# EAGLE library part NCJ6F (library con-neutrik_xlr_2)
NCJ6F Combination - 3 pin Female XLR - 3 pin 1/4" socket With or without retention latch I variant Combi I series A varaiant Combi A series reduced width 2 x T pins Source: www.neutrik.com/
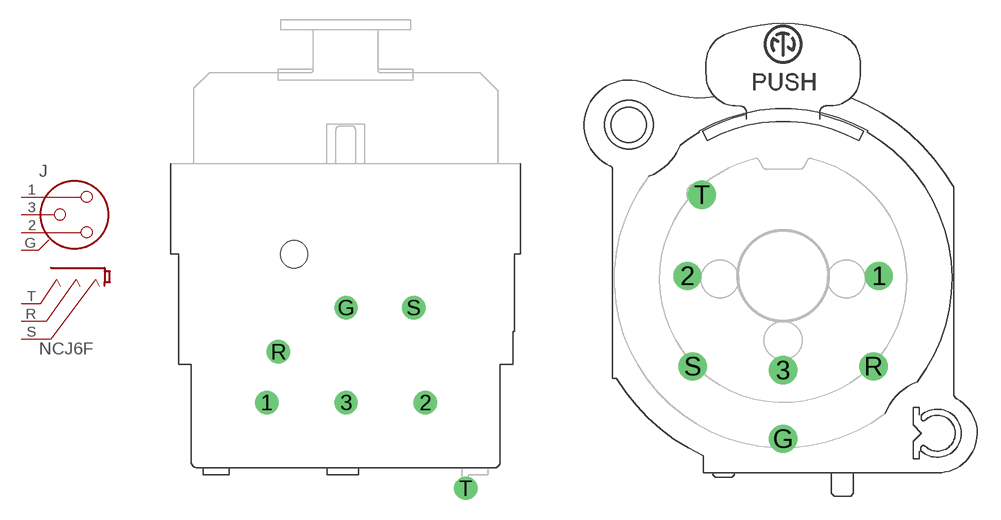
[diagram p2: symbol with the pads of NCJ6FI-H; footprints NCJ6FI-H, NCJ6FI-V]

Designator prefix J

## NCJ6FI-H  [NCJ6FI-H]
1  1  pas
2  2  pas
3  3  pas
G  G  pas
R  R  pas
S  S  pas
T  T  pas

## NCJ6FI-V  [NCJ6FI-V]
Pads as for NCJ6FI-H

## NCJ6FA-H  [NCJ6FA-H]
1  1  pas
2  2  pas
3  3  pas
G  G  pas
R  R  pas
S  S  pas
T  T  pas
T1  T  pas

## NCJ6FA-V  [NCJ6FA-V]
Pads as for NCJ6FA-H

## NCJ6FA-H-0  [NCJ6FA-H]
Pads as for NCJ6FA-H

## NCJ6FA-V-0  [NCJ6FA-V]
Pads as for NCJ6FA-H

## NCJ6FI-H-0  [NCJ6FI-H]
Pads as for NCJ6FI-H

## NCJ6FI-V-0  [NCJ6FI-V]
Pads as for NCJ6FI-H

## Footprint NCJ6FI-H (pad centres in mm)
NCJ6FI-H Combo I Series XLR/3 Pole Jack Not Switched Horizontal orientation (with or without retention latch)
drill 1.2: 1 -6.1,-18.4; 2 6.1,-18.4; 3 0,-18.4; G 0,-11.1; R -5.2,-14.5; S 5.2,-11.1; T 9.2,-25
hole 2.1 at -4,-7

## Footprint NCJ6FI-V (pad centres in mm)
NCJ6FI-V Combo I Series XLR/3 Pole Jack Not Switched Veritcal orientation (with or without retention latch)
drill 1.2: 1 6.15,0; 2 -6.15,0; 3 0,-6.05; G 0,-10.45; R 5.8,-5.8; S -5.8,-5.8; T -5.2,5.2

## Footprint NCJ6FA-H (pad centres in mm)
NCJ6FA-H Combo A Series XLR/3 Pole Jack Not Switched Reduced width Footprint (2 x T pins) Horizontal orientation (with or without retention latch)
drill 1.2: 1 -6.985,-18.45; 2 6.985,-18.45; 3 0,-23.495; R 2.857,-22.86; S -2.857,-22.86
drill 1.6: G -8.25,-6.985; T -4.445,-15.875; T1 4.445,-15.875
hole 1.6 at -5.715,-6.35
hole 1.6 at 5.715,-6.35

## Footprint NCJ6FA-V (pad centres in mm)
NCJ6FA-V Combo A Series XLR/3 Pole Jack Not Switched Reduced width Footprint (2 x T pins) Horizontal orientation (with or without retention latch)
drill 1.2: 1 7.62,0; 2 -7.62,0; 3 0,-6.35; R -3.81,0; S 3.81,0
drill 1.6: G 8.355,-10.11; T -3.81,-4.445; T1 3.81,-4.445
hole 4 at 0,0
hole 2.2 at -7.17,10.16
hole 2.2 at 7.17,10.16
hole 3 at 0,-10.16
hole 2.2 at -3.81,-10.16
hole 2.2 at 3.81,-10.16